# Altium schematic symbol library SnapEDAsch.SchLib: 1 symbol
Pins are listed as number, name and electrical type; pins without a type are passive.

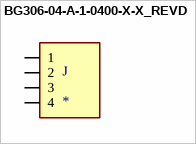
[diagram p0: symbol BG306-04-A-1-0400-X-X_REVD]

## BG306-04-A-1-0400-X-X_REVD
designator J
4 Position Receptacle Connector Surface Mount; MP: BG306-04-A-1-0400-L-B; MF: Global Connector Technology; Price: None; Availability: Unavailable; Package: None; SnapEDA_Link: https://www.snapeda.com/parts/BG306-04-A-1-0400-L-B/Global%20Connector%20Technology/view-part/696204/?ref=snap; Value: *
footprint GCT_BG306-04-A-1-0400-X-X_REVD
pins: 1, 2, 3, 4